# EAGLE library part MS5803-14BA (library SparkFun-Sensors)
Measurement Specialties MS5803_14BA Pressure (Depth) Sensor The MS5803-14BA is a new generation of high resolution pressure sensors with SPI and I2C bus interface. It is optimized for depth measurement systems with a water depth resolution of 1cm and below. The sensor module includes a high linear pressure sensor and an ultra low power 24 bit ΔΣ ADC with internal factory calibrated coefficients. It provides a precise digital 24 Bit pressure and temperature value and different operation modes that allow the user to optimize for conversion speed and current consumption. Datasheet <https://cdn.sparkfun.com/datasheets/Sensors/Weather/ms5803_14ba.pdf> SparkFun Products SparkFun Pressure Sensor Breakout - MS5803-14BA <https://www.sparkfun.com/products/12909> (SEN-12909)
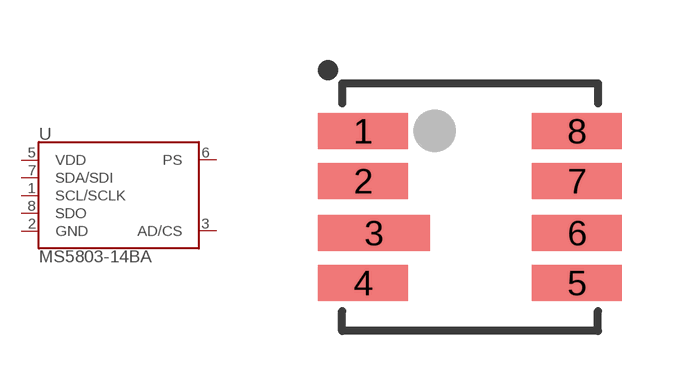
[diagram p42: symbol with the pads of MS5803; footprint MS5803]

Designator prefix U

## MS5803-14BA (PROD_ID: IC-12111)  [MS5803]
1  SCL/SCLK
2  GND
3  AD/CS
5  VDD
6  PS
7  SDA/SDI
8  SDO

## Footprint MS5803 (pad centres in mm)
MS5803-14BA Pressure Sensor 8-Pin 6.4 x6.2 mm Datasheet <https://cdn.sparkfun.com/datasheets/Sensors/Weather/ms5803_14ba.pdf> Specifications: Pin Count: 8 Dimensions: 6.4 x 6.2 x 2.88 mm Pitch: 1.25 mm Devices Using: MS5803-14BA
smd 2.25 x 0.9: 1 -2.675,1.9; 2 -2.675,0.65; 4 -2.675,-1.9; 5 2.675,-1.9; 6 2.675,-0.65; 7 2.675,0.65; 8 2.675,1.9
smd 2.8 x 0.9: 3 -2.4,-0.65